# Altium schematic symbol library SMT-0825-S-4-R.Schlib: 1 symbol
Pins are listed as number, name and electrical type; pins without a type are passive.

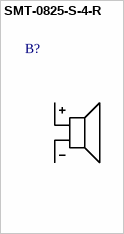
[diagram p0: symbol SMT-0825-S-4-R]

## SMT-0825-S-4-R
designator B?
Buzzer
pins: 1 +, 2 -